# Altium schematic symbol library Supernova Power.SchLib: 96 symbols
Pins are listed as number, name and electrical type; pins without a type are passive.

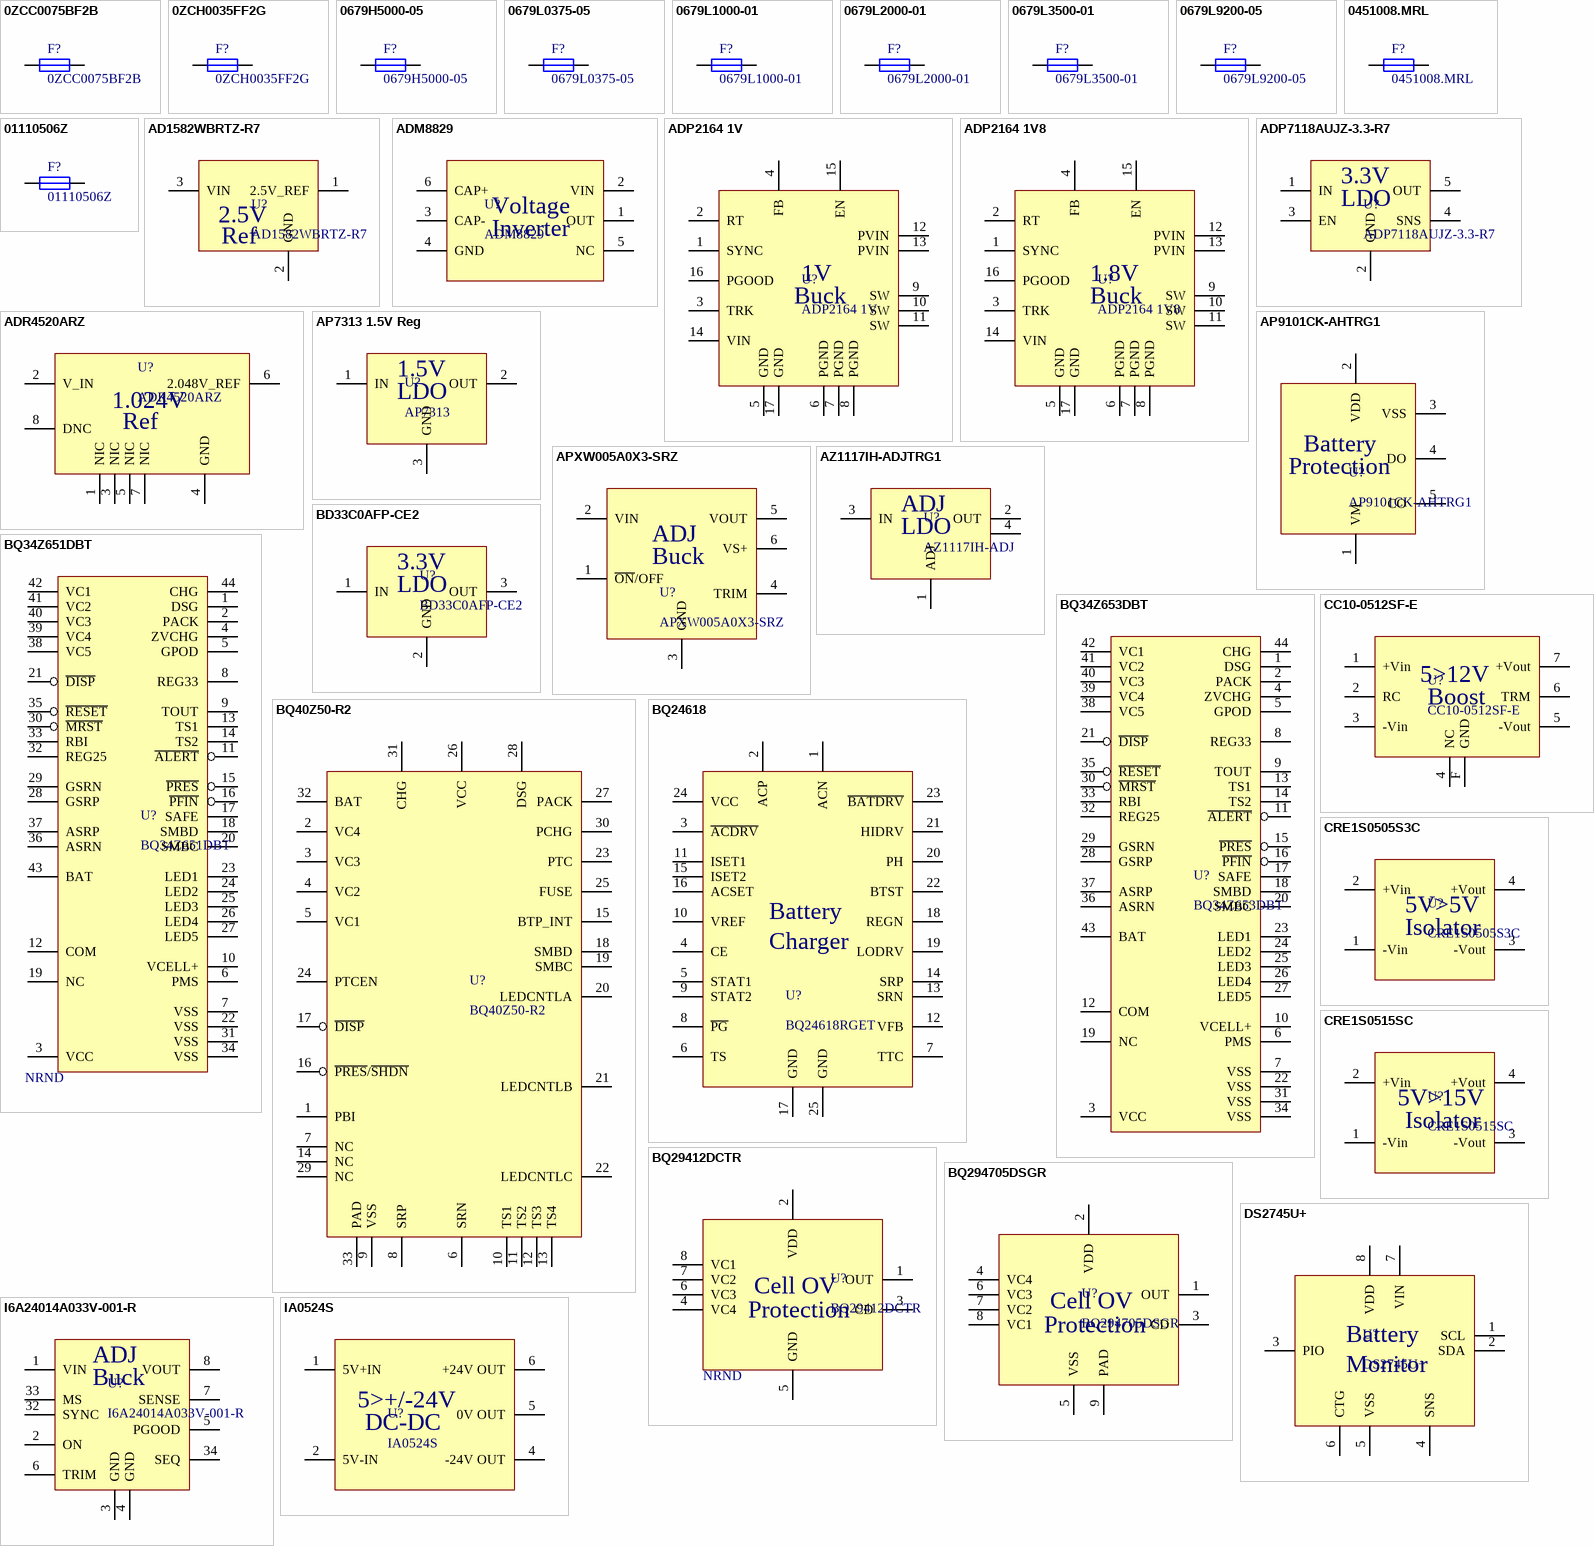
[diagram p0: symbols 0ZCC0075BF2B to IA0524S]

## 0ZCC0075BF2B
designator F?
Fuse 1A PTC Resettable; Supplier 1: Digi-Key; Supplier Part Number 1: 507-1499-1-ND; Supplier 2: Digi-Key; Supplier 3: Digi-Key; Supplier Part Number 2: 507-1765-1-ND; Supplier Part Number 3: F3355CT-ND
footprint 1812 FUSE (Chip)
pins: 1, 2

## 0ZCH0035FF2G
designator F?
Fuse 0.75A PTC Resettable; Supplier 1: Digi-Key; Supplier Part Number 1: 507-1785-1-ND; Supplier 2: Digi-Key; Supplier Part Number 2: F2997CT-ND
footprint 1210 Fuse (Footprint not found)
pins: 1, 2

## 0679H5000-05
designator F?
Fuse 5A Fast Blow; Supplier 1: Digi-Key; Supplier Part Number 1: 507-2054-1-ND; Supplier 2: Digi-Key; Supplier Part Number 2: 507-1994-1-ND
footprint 2410 FUSE (Footprint not found)
pins: 1, 2

## 0679L0375-05
designator F?
Fuse 0.375A Fast Blow; Supplier 1: Digi-Key; Supplier 2: Digi-Key; Supplier Part Number 1: 507-1982-1-ND; Supplier Part Number 2: 507-1961-1-ND
footprint 2410 FUSE (Footprint not found)
pins: 1, 2

## 0679L1000-01
designator F?
Fuse 1A Fast Blow; Supplier 1: Digi-Key; Supplier Part Number 1: 507-1965-1-ND; Supplier 2: Digi-Key; Supplier Part Number 2: 507-2046-1-ND
footprint 2410 FUSE (Footprint not found)
pins: 1, 2

## 0679L2000-01
designator F?
Fuse 2A Fast Blow; Supplier 1: Digi-Key; Supplier 2: Digi-Key; Supplier Part Number 1: 507-1968-1-ND; Supplier Part Number 2: 507-2029-1-ND
footprint 2410 FUSE (Footprint not found)
pins: 1, 2

## 0679L3500-01
designator F?
Fuse 3.5A Fast Blow; Supplier 1: Digi-Key; Supplier 2: Digi-Key; Supplier Part Number 1: 507-1971-1-ND; Supplier Part Number 2: 507-1992-1-ND
footprint 2410 FUSE (Footprint not found)
pins: 1, 2

## 0679L9200-05
designator F?
Fuse 20A Fast Blow; Mass_g: 0.3327; Supplier 1: Digi-Key; Supplier Part Number 1: 507-2001-1-ND; Supplier 2: Digi-Key; Supplier Part Number 2: 507-1980-1-ND
footprint 2410 FUSE (Footprint not found)
pins: 1, 2

## 0451008.MRL
designator F?
Fuse 8A Fast Blow; Supplier 1: Digi-Key; Supplier Part Number 1: F2590CT-ND; Supplier 2: Digi-Key; Supplier Part Number 2: 507-2057-1-ND
footprint 2410 FUSE (Footprint not found)
pins: 1, 2

## 01110506Z
designator F?
Fuse Holder 0520; Supplier 1: Digi-Key; Supplier Part Number 1: F4083-ND; Supplier 2: Digi-Key; Supplier Part Number 2: F4189-ND
footprint 0111506 (Footprint not found)
pins: 1, 2

## AD1582WBRTZ-R7
designator U?
Reference 2.5V; Mass_g: 0.091; Supplier 1: Mouser; Supplier Part Number 1: 584-AD1582WBRTZ-R7; Supplier 2: Digi-Key; Supplier Part Number 2: 505-AD1582WBRTZ-R7CT-ND
footprint SOT23-3 (Footprint not found)
pins: 1 2.5V_REF, 2 GND, 3 VIN
text: 2.5V; Ref

## ADM8829
designator U?
Regulator Voltage Inverter; Supplier 1: Digi-Key; Supplier Part Number 1: ADM8829ARTZ-REEL7CT-ND; Supplier 2: Mouser; Supplier 3: Newark; Supplier Part Number 2: 584-ADM8829ARTZ-R7; Supplier Part Number 3: 45X9647
footprint SOT23-6 (Footprint not found)
pins: 1 OUT, 2 VIN, 3 CAP-, 4 GND, 5 NC, 6 CAP+
text: Voltage; Inverter

## ADP2164 1V
designator U?
Regulator 1V 4A Switching; Supplier 1: Digi-Key; Supplier Part Number 1: ADP2164ACPZ-1.0-R7CT-ND; Supplier 2: Mouser; Supplier Part Number 2: 584-ADP2164ACPZ1.0R7
footprint QFN-16 EP 0.65mm (QFN, 16-Leads, Body 4.00x4.00mm, Pitch 0.65mm, Thermal Pad 2.50x2.50mm, IPC Medium Density)
pins: 1 SYNC, 2 RT, 3 TRK, 4 FB, 5 GND, 6 PGND, 7 PGND, 8 PGND, 9 SW, 10 SW, 11 SW, 12 PVIN, 13 PVIN, 14 VIN, 15 EN, 16 PGOOD, 17 GND
text: 1V; Buck

## ADP2164 1V8
designator U?
Regulator 1V8 4A Switching; Supplier 1: Digi-Key; Supplier Part Number 1: ADP2164ACPZ-1.8-R7CT-ND; Supplier 2: Mouser; Supplier Part Number 2: 584-ADP2164ACPZ1.8R7
footprint QFN-16 EP 0.65mm (QFN, 16-Leads, Body 4.00x4.00mm, Pitch 0.65mm, Thermal Pad 2.50x2.50mm, IPC Medium Density)
pins: 1 SYNC, 2 RT, 3 TRK, 4 FB, 5 GND, 6 PGND, 7 PGND, 8 PGND, 9 SW, 10 SW, 11 SW, 12 PVIN, 13 PVIN, 14 VIN, 15 EN, 16 PGOOD, 17 GND
text: 1.8V; Buck

## ADP7118AUJZ-3.3-R7
designator U?
Regulator 3.3V LDO; Supplier 1: Digi-Key; Supplier Part Number 1: ADP7118AUJZ-3.3-R7CT-ND; Supplier 2: Mouser; Supplier Part Number 2: 584-ADP7118AUJZ3.3R7
footprint SOT23-5 (Footprint not found)
pins: 1 IN, 2 GND, 3 EN, 4 SNS, 5 OUT
text: 3.3V; LDO

## ADR4520ARZ
designator U?
Reference 2.048V; Supplier 1: Digi-Key; Supplier 2: Mouser; Supplier Part Number 2: 584-ADR4520ARZ; Supplier Part Number 1: ADR4520ARZ-ND
footprint SOIC-8 (Footprint not found)
pins: 1 NIC, 2 V_IN, 3 NIC, 4 GND, 5 NIC, 6 2.048V_REF, 7 NIC, 8 DNC
text: 1.024V; Ref

## AP7313 1.5V Reg
designator U?, comment AP7313
Regulator 1.5V 200mA LDO; Supplier 1: Digi-Key; Supplier Part Number 1: AP7313-15SAG-7DICT-ND; Supplier 2: Digi-Key; Supplier 3: Digi-Key; Supplier Part Number 2: AP7333-15SAG-7DICT-ND; Supplier Part Number 3: 1028-1470-1-ND
footprint SOT23-3 (Footprint not found)
pins: 1 IN, 2 OUT, 3 GND
text: 1.5V; LDO

## AP9101CK-AHTRG1
designator U?
Battery Protection single cell; Supplier 1: Digi-Key; Supplier 2: Digikey; Supplier Part Number 1: AP9101CK-AHTRG1DICT-ND; Supplier Part Number 2: AP9101CAK-AKTRG1DICT-ND
footprint SOT23-5 (Footprint not found)
pins: 1 VM (power), 2 VDD (power), 3 VSS, 4 DO, 5 CO
text: Battery; Protection

## APXW005A0X3-SRZ
designator U?
Regulator DC-DC Buck Converter 5A 45W Adjustable; Supplier 1: Digi-Key; Supplier Part Number 1: 555-1172-1-ND; Supplier 2: Mouser; Supplier 3: Digi-Key; Supplier Part Number 2: 894-APXW005A0X3-SRZ; Supplier Part Number 3: 555-1436-1-ND
footprint APXW005 (Footprint not found)
pins: 1 ~{ON}/OFF, 2 VIN, 3 GND, 4 TRIM, 5 VOUT, 6 VS+
text: ADJ; Buck

## AZ1117IH-ADJTRG1
designator U?, comment AZ1117IH-ADJ
Regulator Adjustable LDO 800mA; Supplier 1: Digi-Key; Supplier Part Number 1: AZ1117IH-ADJTRG1DICT-ND; Supplier 2: Digi-Key; Supplier 3: Digi-Key; Supplier 4: Digi-Key; Supplier Part Number 2: LM317AEMPX/NOPBCT-ND; Supplier Part Number 3: LM317AEMP/NOPBCT-ND; Supplier Part Number 4: 296-17600-1-ND
footprint SOT233 (Footprint not found)
pins: 1 ADJ, 2 OUT, 3 IN, 4 OUT
text: LDO

## BD33C0AFP-CE2
designator U?
Regulator 3.3V LDO High Current; Supplier 1: Digi-Key; Supplier Part Number 1: BD33C0AFP-CE2CT-ND
footprint DPAK (Footprint not found)
pins: 1 IN, 2 GND, 3 OUT
text: 3.3V; LDO

## BQ34Z651DBT
designator U?
Battery Gas Gauge BQ34Z651DBT; Supplier 1: Digi-Key; Supplier 2: Mouser; Supplier Part Number 1: 296-29263-5-ND; Supplier Part Number 2: 595-BQ34Z651DBTR; NRND: NRND
footprint TSSOP-44 0.5mm (TSSOP, 44-Leads, Body 11.15x4.40mm, Pitch 0.50mm, IPC Medium Density)
pins: 1 DSG "High side N-chan discharge FET gate drive", 2 PACK "Battery pack input voltage sense input. It also serves as device wake up when device is in shutdown mode.", 3 VCC "Positive device supply input. Connect to the center connection of the CHG FET and DSG FET to ensure device supply either from battery stack or battery pack input", 4 ZVCHG "P-chan pre-charge FET gate drive", 5 GPOD "High voltage general purpose open drain output. Can be configured to be used in pre-charge condition", 6 PMS "Pre-charge mode setting input. Connect to PACK to enable 0v pre-charge using charge FET connected at CHG pin. Connect to VSS to disable 0-V pre-charge using charge FET connected at CHG pin.", 7 VSS "Negative supply voltage input. Connect all VSS pins together for operation of device", 8 REG33 "3.3-V regulator output. Connect at least a 2.2-uF capacitor to REG33 and VSS", 9 TOUT "Thermistor bias supply output", 10 VCELL+ "Internal cell voltage multiplexer and amplifier output. Connect a 0.1-uF capacitor to VCELL+ and VSS", 11 ~{ALERT} "Alert output. In case of short circuit condition, overload condition and watchdog time out this pin will be triggered", 12 COM "Not used--leave floating.", 13 TS1 "1st Thermistor voltage input connection to monitor temperature", 14 TS2 "2nd Thermistor voltage input connection to monitor temperature", 15 ~{PRES} "Active low input to sense system insertion. Typically requires additional ESD protection.", 16 ~{PFIN} "Active low input to detect secondary protector status, and to allow the bq20z655-R1 to report the status of the 2nd level protection input.", 17 SAFE "Active high output to enforce additional level of safety protection; e.g., fuse blow.", 18 SMBD "SMBus data open-drain bidirectional pin used to transfer address and data to and from the bq20z655-R1", 19 NC "Not used--leave floating.", 20 SMBC "SMBus clock open-drain bidirectional pin used to clock the data transfer to and from the bq20z655-R1", 21 ~{DISP} "Input: In LED mode, this is the display enable input.", 22 VSS "Negative supply voltage input. Connect all VSS pins together for operation of device", 23 LED1 "LED1 display segment that drives an external LED depending on the firmware configuration", 24 LED2 "LED2 display segment that drives an external LED depending on the firmware configuration", 25 LED3 "LED3 display segment that drives an external LED depending on the firmware configuration", 26 LED4 "LED4 display segment that drives an external LED depending on the firmware configuration", 27 LED5 "LED5 display segment that drives an external LED depending on the firmware configuration", 28 GSRP "Coulomb counter differential input. Connect to one side of the sense resistor", 29 GSRN "Coulomb counter differential input. Connect to one side of the sense resistor", 30 ~{MRST} "Master reset input that forces the device into reset when held low. Must be held high for normal operation. Connect to R\E\S\E\T\ for correct operation of device", 31 VSS "Negative supply voltage input. Connect all VSS pins together for operation of device", 32 REG25 "2.5V regulator output. Connect at least a 1-mF capacitor to REG25 and VSS", 33 RBI "RAM / Register backup input. Connect a capacitor to this pin and VSS to protect loss of RAM/Register data in case of short circuit condition.", 34 VSS "Negative supply voltage input. Connect all VSS pins together for operation of device", 35 ~{RESET} "Reset output. Connect to M\S\R\T\.", 36 ASRN "Short circuit and overload detection differential input. Connect to sense resistor", 37 ASRP "Short circuit and overload detection differential input. Connect to sense resistor", 38 VC5 "Cell voltage sense input and cell balancing input for the negative voltage of the bottom cell in cell stack.", 39 VC4 "Cell voltage sense input and cell balancing input for the positive voltage of the bottom cell and the negative voltage of the second lowest cell in cell stack.", 40 VC3 "Cell voltage sense input and cell balancing input for the positive voltage of the second lowest cell in cell stack and the negative voltage of the second highest cell in 4 cell applications.", 41 VC2 "Cell voltage sense input and cell balancing input for the positive voltage of the second highest cell and the negative voltage of the highest cell in 4 cell applications. Connect to VC3 in 2 cell stack applications.", 42 VC1 "Cell voltage sense input and cell balancing input for the positive voltage of the highest cell in cell stack in 4 cell applications. Connect to VC2 in 2- or 3-stack applications.", 43 BAT "Battery stack voltage sense input.", 44 CHG "High side N-channel charge FET gate drive"

## BQ34Z653DBT
designator U?
Battery Gas Gauge BQ34Z653DBT; Supplier 1: Mouser; Supplier Part Number 1: 595-BQ34Z653DBT; Supplier 2: Digi-Key; Supplier Part Number 2: BQ34Z653DBT-ND
footprint TSSOP-44 0.5mm (TSSOP, 44-Leads, Body 11.15x4.40mm, Pitch 0.50mm, IPC Medium Density)
pins: 1 DSG "High side N-chan discharge FET gate drive", 2 PACK "Battery pack input voltage sense input. It also serves as device wake up when device is in shutdown mode.", 3 VCC "Positive device supply input. Connect to the center connection of the CHG FET and DSG FET to ensure device supply either from battery stack or battery pack input", 4 ZVCHG "P-chan pre-charge FET gate drive", 5 GPOD "High voltage general purpose open drain output. Can be configured to be used in pre-charge condition", 6 PMS "Pre-charge mode setting input. Connect to PACK to enable 0v pre-charge using charge FET connected at CHG pin. Connect to VSS to disable 0-V pre-charge using charge FET connected at CHG pin.", 7 VSS "Negative supply voltage input. Connect all VSS pins together for operation of device", 8 REG33 "3.3-V regulator output. Connect at least a 2.2-uF capacitor to REG33 and VSS", 9 TOUT "Thermistor bias supply output", 10 VCELL+ "Internal cell voltage multiplexer and amplifier output. Connect a 0.1-uF capacitor to VCELL+ and VSS", 11 ~{ALERT} "Alert output. In case of short circuit condition, overload condition and watchdog time out this pin will be triggered", 12 COM "Not used--leave floating.", 13 TS1 "1st Thermistor voltage input connection to monitor temperature", 14 TS2 "2nd Thermistor voltage input connection to monitor temperature", 15 ~{PRES} "Active low input to sense system insertion. Typically requires additional ESD protection.", 16 ~{PFIN} "Active low input to detect secondary protector status, and to allow the bq20z655-R1 to report the status of the 2nd level protection input.", 17 SAFE "Active high output to enforce additional level of safety protection; e.g., fuse blow.", 18 SMBD "SMBus data open-drain bidirectional pin used to transfer address and data to and from the bq20z655-R1", 19 NC "Not used--leave floating.", 20 SMBC "SMBus clock open-drain bidirectional pin used to clock the data transfer to and from the bq20z655-R1", 21 ~{DISP} "Input: In LED mode, this is the display enable input.", 22 VSS "Negative supply voltage input. Connect all VSS pins together for operation of device", 23 LED1 "LED1 display segment that drives an external LED depending on the firmware configuration", 24 LED2 "LED2 display segment that drives an external LED depending on the firmware configuration", 25 LED3 "LED3 display segment that drives an external LED depending on the firmware configuration", 26 LED4 "LED4 display segment that drives an external LED depending on the firmware configuration", 27 LED5 "LED5 display segment that drives an external LED depending on the firmware configuration", 28 GSRP "Coulomb counter differential input. Connect to one side of the sense resistor", 29 GSRN "Coulomb counter differential input. Connect to one side of the sense resistor", 30 ~{MRST} "Master reset input that forces the device into reset when held low. Must be held high for normal operation. Connect to R\E\S\E\T\ for correct operation of device", 31 VSS "Negative supply voltage input. Connect all VSS pins together for operation of device", 32 REG25 "2.5V regulator output. Connect at least a 1-mF capacitor to REG25 and VSS", 33 RBI "RAM / Register backup input. Connect a capacitor to this pin and VSS to protect loss of RAM/Register data in case of short circuit condition.", 34 VSS "Negative supply voltage input. Connect all VSS pins together for operation of device", 35 ~{RESET} "Reset output. Connect to M\S\R\T\.", 36 ASRN "Short circuit and overload detection differential input. Connect to sense resistor", 37 ASRP "Short circuit and overload detection differential input. Connect to sense resistor", 38 VC5 "Cell voltage sense input and cell balancing input for the negative voltage of the bottom cell in cell stack.", 39 VC4 "Cell voltage sense input and cell balancing input for the positive voltage of the bottom cell and the negative voltage of the second lowest cell in cell stack.", 40 VC3 "Cell voltage sense input and cell balancing input for the positive voltage of the second lowest cell in cell stack and the negative voltage of the second highest cell in 4 cell applications.", 41 VC2 "Cell voltage sense input and cell balancing input for the positive voltage of the second highest cell and the negative voltage of the highest cell in 4 cell applications. Connect to VC3 in 2 cell stack applications.", 42 VC1 "Cell voltage sense input and cell balancing input for the positive voltage of the highest cell in cell stack in 4 cell applications. Connect to VC2 in 2- or 3-stack applications.", 43 BAT "Battery stack voltage sense input.", 44 CHG "High side N-channel charge FET gate drive"

## BQ40Z50-R2
designator U?
Battery Gas Gauge BQ40Z50-R2; Supplier 1: Digi-Key; Supplier 2: Digi-Key; Supplier 3: Digi-Key; Supplier Part Number 1: 296-47744-1-ND; Supplier Part Number 2: 296-42424-1-ND; Supplier Part Number 3: 296-46077-1-ND
footprint QFN-32 EP 0.4mm (QFN, 32-Leads, Body 4.00x4.00mm, Pitch 0.40mm, Thermal Pad 1.40x1.40mm, IPC Medium Density)
pins: 1 PBI "Cell voltage sense input and cell balancing input for the positive voltage of the highest cell in cell stack in 4 cell applications. Connect to VC2 in 2- or 3-stack applications.", 2 VC4 "Cell voltage sense input and cell balancing input for the positive voltage of the bottom cell and the negative voltage of the second lowest cell in cell stack.", 3 VC3 "Cell voltage sense input and cell balancing input for the positive voltage of the second lowest cell in cell stack and the negative voltage of the second highest cell in 4 cell applications.", 4 VC2 "Cell voltage sense input and cell balancing input for the positive voltage of the second highest cell and the negative voltage of the highest cell in 4 cell applications. Connect to VC3 in 2 cell stack applications.", 5 VC1 "Cell voltage sense input and cell balancing input for the positive voltage of the highest cell in cell stack in 4 cell applications. Connect to VC2 in 2- or 3-stack applications.", 6 SRN "Short circuit and overload detection differential input. Connect to sense resistor", 7 NC "Not used--leave floating.", 8 SRP "Short circuit and overload detection differential input. Connect to sense resistor", 9 VSS "Negative supply voltage input. Connect all VSS pins together for operation of device", 10 TS1 "1st Thermistor voltage input connection to monitor temperature", 11 TS2 "2nd Thermistor voltage input connection to monitor temperature", 12 TS3 "2nd Thermistor voltage input connection to monitor temperature", 13 TS4 "2nd Thermistor voltage input connection to monitor temperature", 14 NC "Not used--leave floating.", 15 BTP_INT "Cell voltage sense input and cell balancing input for the positive voltage of the highest cell in cell stack in 4 cell applications. Connect to VC2 in 2- or 3-stack applications.", 16 ~{PRES}/~{SHDN} "Active low input to sense system insertion. Typically requires additional ESD protection.", 17 ~{DISP} "Input: In LED mode, this is the display enable input.", 18 SMBD "SMBus data open-drain bidirectional pin used to transfer address and data to and from the bq20z655-R1", 19 SMBC "SMBus clock open-drain bidirectional pin used to clock the data transfer to and from the bq20z655-R1", 20 LEDCNTLA "LED1 display segment that drives an external LED depending on the firmware configuration", 21 LEDCNTLB "LED1 display segment that drives an external LED depending on the firmware configuration", 22 LEDCNTLC "LED1 display segment that drives an external LED depending on the firmware configuration", 23 PTC "LED1 display segment that drives an external LED depending on the firmware configuration", 24 PTCEN "LED1 display segment that drives an external LED depending on the firmware configuration", 25 FUSE "Active high output to enforce additional level of safety protection; e.g., fuse blow.", 26 VCC "Positive device supply input. Connect to the center connection of the CHG FET and DSG FET to ensure device supply either from battery stack or battery pack input", 27 PACK "Battery pack input voltage sense input. It also serves as device wake up when device is in shutdown mode.", 28 DSG "High side N-chan discharge FET gate drive", 29 NC "Not used--leave floating.", 30 PCHG "P-chan pre-charge FET gate drive", 31 CHG "High side N-channel charge FET gate drive", 32 BAT "2.5V regulator output. Connect at least a 1-mF capacitor to REG25 and VSS", 33 PAD "Not used--leave floating."

## BQ24618
designator U?, comment BQ24618RGET
Battery Charger; Supplier 1: Digi-Key; Supplier Part Number 1: 296-28018-1-ND; Supplier 2: Newark; Supplier 3: Mouser; Supplier Part Number 2: 59Y6811; Supplier Part Number 3: 595-BQ24618RGET
footprint QFN-24 0.5mm (QFN, 24-Leads, Body 4.00x4.00mm, Pitch 0.50mm, Thermal Pad 2.45x2.45mm, IPC Medium Density)
pins: 1 ACN, 2 ACP, 3 ~{ACDRV}, 4 CE, 5 STAT1, 6 TS, 7 TTC, 8 ~{PG}, 9 STAT2, 10 VREF, 11 ISET1, 12 VFB, 13 SRN, 14 SRP, 15 ISET2, 16 ACSET, 17 GND, 18 REGN, 19 LODRV, 20 PH, 21 HIDRV, 22 BTST, 23 ~{BATDRV}, 24 VCC, 25 GND
text: Battery; Charger

## BQ29412DCTR
designator U?
Battery Monitoring; Supplier 1: Digi-Key; Supplier Part Number 1: 296-21723-1-ND; Supplier 2: Mouser; Supplier 3: Mouser; Supplier 4: Digi-Key; Supplier Part Number 2: 595-BQ29412DCTR; Supplier Part Number 3: 595-BQ29412DCTT; Supplier Part Number 4: 296-32040-1-ND; NRND: NRND
footprint SM8 0.65mm (TSOP, 8-Leads, Body 2.95x2.80mm, Pitch 0.65mm, IPC Medium Density)
pins: 1 OUT, 2 VDD, 3 CD, 4 VC4, 5 GND, 6 VC3, 7 VC2, 8 VC1
text: Cell OV; Protection

## BQ294705DSGR
designator U?
Battery Monitoring; Supplier 1: Digi-Key; Supplier 2: Mouser; Supplier Part Number 1: 296-BQ294705DSGRCT-ND; Supplier Part Number 2: 595-BQ294705DSGR
footprint SON-8 0.5mm (SON, 8-Leads, Body 2.00x2.00mm, Pitch 0.50mm, Thermal Pad 1.60x0.69mm, IPC Medium Density)
pins: 1 OUT, 2 VDD, 3 CD, 4 VC4, 5 VSS, 6 VC3, 7 VC2, 8 VC1, 9 PAD
text: Cell OV; Protection

## CC10-0512SF-E
designator U?
Regulator DC-DC Boost Converter 5V->12V 10W; Supplier 1: Digi-Key; Supplier Part Number 1: 445-2433-ND; Supplier 2: Mouser; Supplier Part Number 2: 967-CC10-0512SF-E
footprint CC10 (Footprint not found)
pins: 1 +Vin, 2 RC, 3 -Vin, 4 NC, 5 -Vout, 6 TRM, 7 +Vout, F GND
text: 5>12V; Boost

## CRE1S0505S3C
designator U?
Regulator DC-DC Converter 5V->5V Isolated; Supplier 1: Digi-Key; Supplier Part Number 1: 811-3195-ND; Supplier 2: Digi-Key; Supplier 3: Digi-Key; Supplier Part Number 2: 945-1655-5-ND; Supplier Part Number 3: 102-2758-ND
footprint CRE1S0505S3C (Footprint not found)
pins: 1 -Vin, 2 +Vin, 3 -Vout, 4 +Vout
text: 5V>5V; Isolator

## CRE1S0515SC
designator U?
Regulator DC-DC Boost Converter 5V->15V 1W; Supplier 1: Digi-Key; Supplier 2: Digi-Key; Supplier Part Number 1: 811-3197-ND; Supplier Part Number 2: 102-3948-ND
footprint CRE1S0505S3C (Footprint not found)
pins: 1 -Vin, 2 +Vin, 3 -Vout, 4 +Vout
text: 5V>15V; Isolator

## DS2745U+
designator U?
Battery Monitor; Supplier 1: Digi-Key; Supplier 2: Digi-Key; Supplier Part Number 1: DS2745U+-ND; Supplier Part Number 2: DS2745U+CT-ND
footprint TSOP-8 0.65mm (TSOP, 8-Leads, Body 3.00x3.00mm, Pitch 0.65mm, IPC Medium Density)
pins: 1 SCL, 2 SDA, 3 PIO, 4 SNS, 5 VSS, 6 CTG, 7 VIN, 8 VDD
text: Battery; Monitor

## I6A24014A033V-001-R
designator U?
Regulator DC-DC Converter Buck 14A Adjustable; Supplier 1: Digi-Key; Supplier Part Number 1: 285-2434-ND; Supplier 2: Newark; Supplier 3: Mouser; Supplier Part Number 2: 78Y5855; Supplier Part Number 3: 967-I6A24014A033V001
footprint i6a-11pins (Footprint not found)
pins: 1 VIN, 2 ON, 3 GND, 4 GND, 5 PGOOD, 6 TRIM, 7 SENSE, 8 VOUT, 32 SYNC, 33 MS, 34 SEQ
text: ADJ; Buck

## IA0524S
designator U?
Regulator DC-DC Boost Converter 5V->+/-24V 1W; Supplier 1: Digi-Key; Supplier 2: Digi-Key; Supplier Part Number 1: 1470-1353-5-ND; Supplier Part Number 2: 102-2994-5-ND
footprint PDM1-S (Footprint not found)
pins: 1 5V+IN, 2 5V-IN, 4 -24V OUT, 5 0V OUT, 6 +24V OUT
text: 5>+/-24V; DC-DC

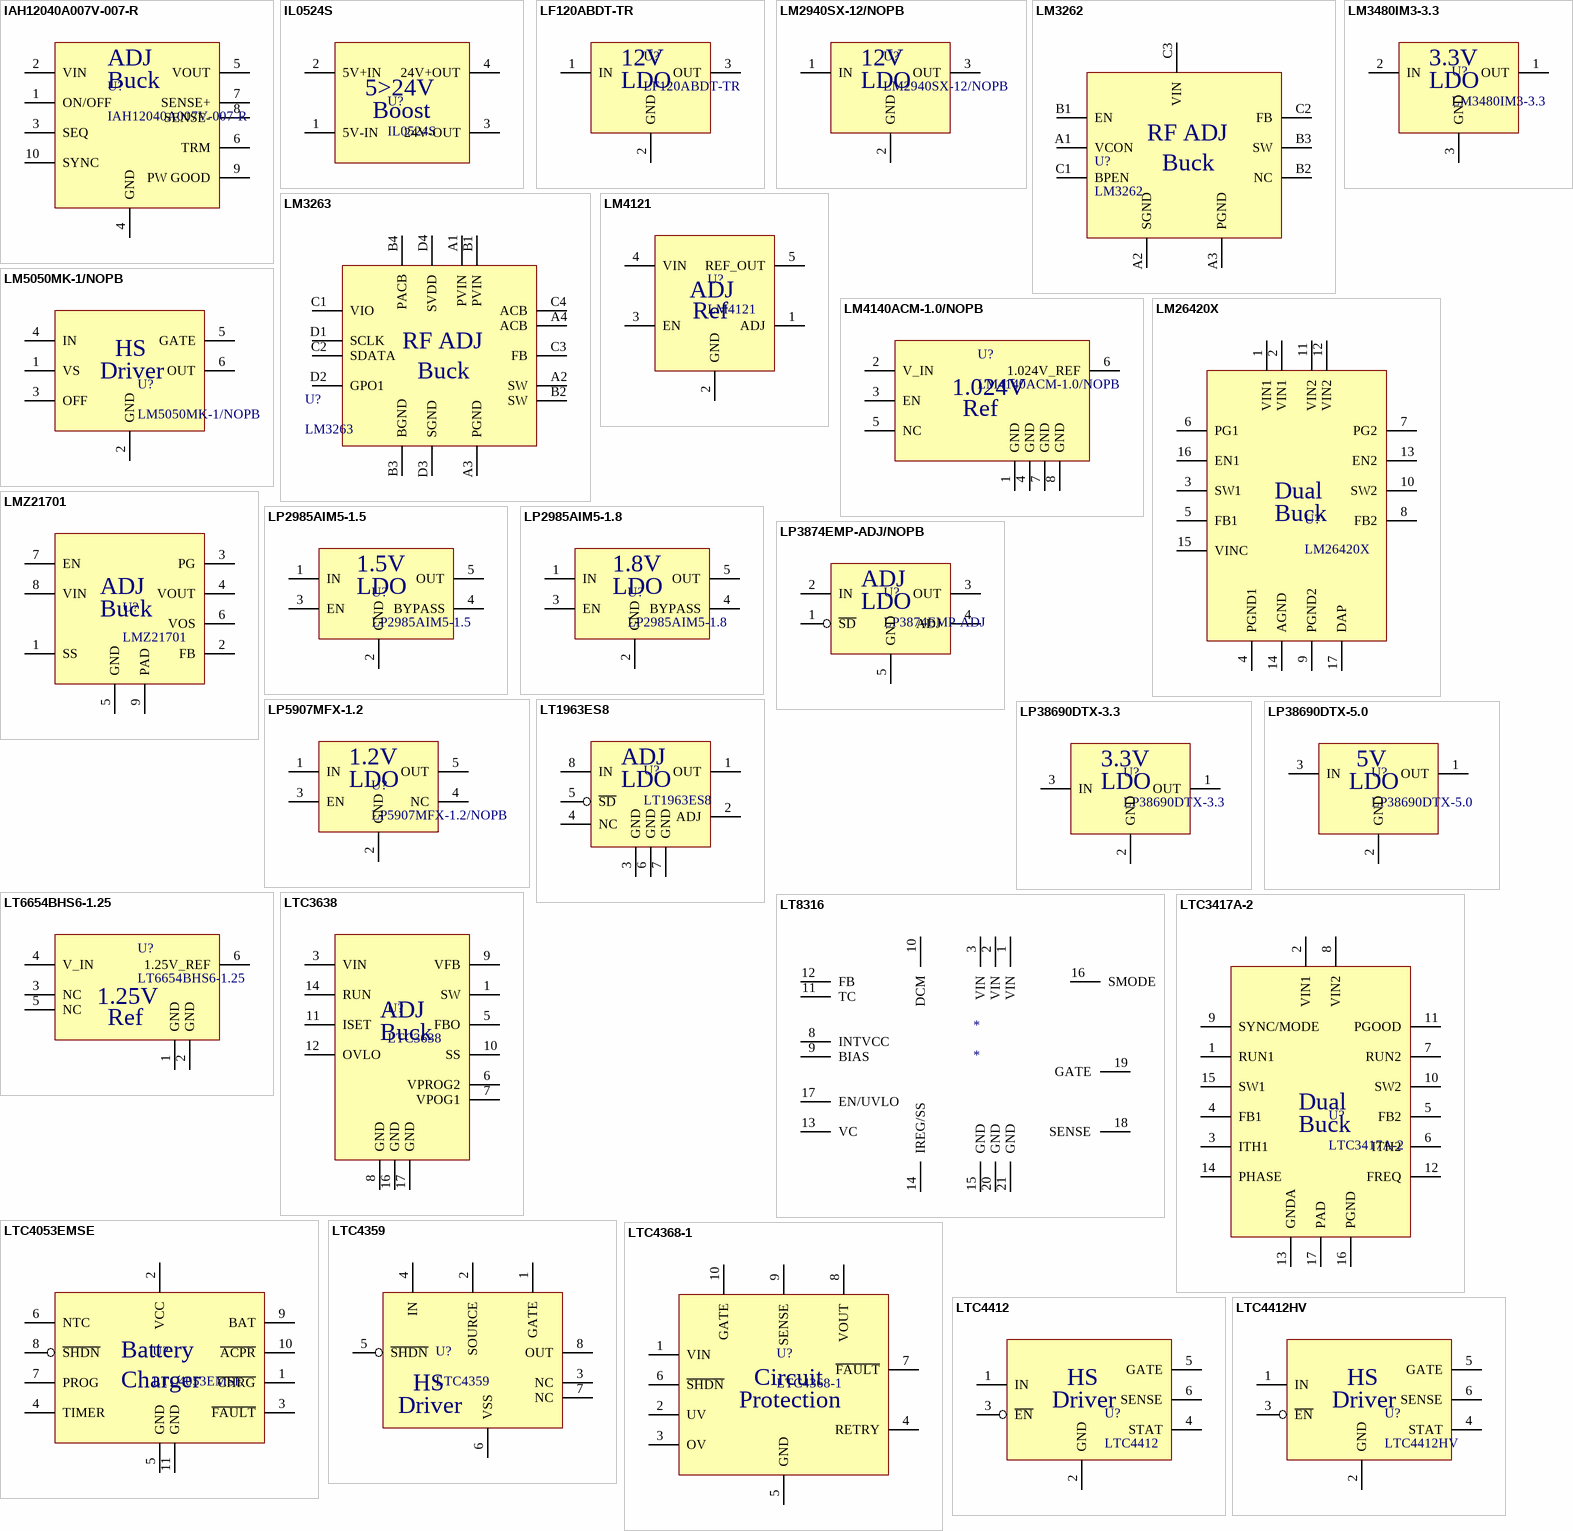
[diagram p1: symbols IAH12040A007V-007-R to LTC4412HV]

## IAH12040A007V-007-R
designator U?
Regulator DC-DC Buck Converter 40A Adjustable; Supplier 1: Digi-Key; Supplier Part Number 1: 285-2474-1-ND; Supplier 2: Newark; Supplier 3: Mouser; Supplier Part Number 2: 70Y5447; Supplier Part Number 3: 967-IAH12040A007V007
footprint IAH (Footprint not found)
pins: 1 ON/OFF, 2 VIN, 3 SEQ, 4 GND, 5 VOUT, 6 TRM, 7 SENSE+, 8 SENSE-, 9 PW GOOD, 10 SYNC
text: ADJ; Buck

## IL0524S
designator U?
Regulator DC-DC Boost Converter 5V->24V 2W; Supplier 1: Digi-Key; Supplier Part Number 1: 1470-1480-5-ND; Supplier 2: Newark; Supplier Part Number 2: 93T1525
footprint IL0524S (Footprint not found)
pins: 1 5V-IN, 2 5V+IN, 3 24V-OUT, 4 24V+OUT
text: 5>24V; Boost

## LF120ABDT-TR
designator U?
Regulator 12V LDO 500mA; Supplier 1: Digi-Key; Supplier Part Number 1: 497-8330-1-ND; Supplier 2: Digi-Key; Supplier Part Number 2: 296-27429-1-ND
footprint DPAK (Footprint not found)
pins: 1 IN, 2 GND, 3 OUT
text: 12V; LDO

## LM2940SX-12/NOPB
designator U?
Regulator 12V LDO 1A; Supplier 1: Digi-Key; Supplier Part Number 1: LM2940SX-12/NOPBCT-ND; Supplier 2: Digi-Key; Supplier Part Number 2: LM2940SX-12/NOPBDKR-ND
footprint D2PAK-3 (Footprint not found)
pins: 1 IN, 2 GND, 3 OUT
text: 12V; LDO

## LM3262
designator U?
Regulator Adjustable Switching RF Supply; Supplier 1: Digi-Key; Supplier 2: Mouser; Supplier Part Number 1: 296-40182-1-ND; Supplier Part Number 2: 595-LM3262TMX/NOPB
footprint BGA-9 0.4mm (BGA, 9-Leads, Body 1.36x1.48mmx0.68mm, Pitch 0.40mm)
pins: A1 VCON, A2 SGND, A3 PGND, B1 EN, B2 NC, B3 SW, C1 BPEN, C2 FB, C3 VIN
text: RF ADJ; Buck

## LM3263
designator U?
Regulator Adjustable Switching RF supply; Supplier 1: Mouser; Supplier 2: Digi-Key; Supplier Part Number 1: 595-LM3263TME/NOPB; Supplier Part Number 2: 296-40183-1-ND
footprint BGA-16 0.4mm (BGA, 16-Leads, Body 2.02x2.02mmx0.60mm, Pitch 0.40mm)
pins: A1 PVIN, A2 SW, A3 PGND, A4 ACB, B1 PVIN, B2 SW, B3 BGND, B4 PACB, C1 VIO, C2 SDATA, C3 FB, C4 ACB, D1 SCLK, D2 GPO1, D3 SGND, D4 SVDD
text: RF ADJ; Buck

## LM3480IM3-3.3
designator U?
Regulator 3.3V LDO 3 pin High Voltage; Supplier 1: Digi-Key; Supplier 2: Digi-Key; Supplier Part Number 1: LM3480IM3-3.3/NOPBCT-ND; Supplier Part Number 2: 296-47016-1-ND
footprint SOT23-3 (Footprint not found)
pins: 1 OUT, 2 IN, 3 GND
text: 3.3V; LDO

## LM4121
designator U?
Reference Adjustable; Supplier 1: Digi-Key; Supplier 2: Mouser; Supplier Part Number 1: LM4121AIM5-ADJ/NOPBCT-ND; Supplier Part Number 2: 926-LM4121AIM5ADJNPB
footprint SOT23-5 (Footprint not found)
pins: 1 ADJ, 2 GND, 3 EN, 4 VIN, 5 REF_OUT
text: Ref

## LM4140ACM-1.0/NOPB
designator U?
Reference 1.024V; Supplier 1: Digi-Key; Supplier 2: Mouser; Supplier Part Number 1: LM4140ACM-1.0/NOPB-ND; Supplier Part Number 2: 926-LM4140ACM10NOPB
footprint SOIC-8 (Footprint not found)
pins: 1 GND, 2 V_IN, 3 EN, 4 GND, 5 NC, 6 1.024V_REF, 7 GND, 8 GND
text: 1.024V; Ref

## LM5050MK-1/NOPB
designator U?
Driver High side NMOS; Supplier 1: Digi-Key; Supplier Part Number 1: LM5050MK-1/NOPBCT-ND; Supplier 2: Mouser; Supplier 3: Mouser; Supplier 4: Digi-Key; Supplier 5: Digi-Key; Supplier Part Number 2: 926-LM5050MK-2/NOPB; Supplier Part Number 3: 926-LM5050MKX-1/NOPB; Supplier Part Number 4: 296-48581-1-ND; Supplier Part Number 5: 296-46427-1-ND
footprint SOT23-6 (Footprint not found)
pins: 1 VS, 2 GND, 3 OFF, 4 IN, 5 GATE, 6 OUT
text: HS; Driver

## LM26420X
designator U?
Regulator 2 channel 2A switching; Supplier 1: Digi-Key; Supplier Part Number 1: LM26420XSQ/NOPBCT-ND; Supplier 2: Digi-Key; Supplier 3: Digi-Key; Supplier 4: Digi-Key; Supplier Part Number 2: 296-39605-1-ND; Supplier Part Number 3: 296-42342-1-ND; Supplier Part Number 4: 296-38098-6-ND
footprint SON-16 0.5mm (SON, 16-Leads, Body 5.00x3.50mm, Pitch 0.50mm, Thermal Pad 4.45x1.65mm, IPC Medium Density)
pins: 1 VIN1, 2 VIN1, 3 SW1, 4 PGND1, 5 FB1, 6 PG1, 7 PG2, 8 FB2, 9 PGND2, 10 SW2, 11 VIN2, 12 VIN2, 13 EN2, 14 AGND, 15 VINC, 16 EN1, 17 DAP
text: Dual; Buck

## LMZ21701
designator U?
Regulator DC-DC Buck Converter 1A; Supplier 1: Digi-Key; Supplier Part Number 1: 296-38545-1-ND; Supplier 2: Digi-Key; Supplier Part Number 2: 296-43645-1-ND
footprint LMZ21701 (Footprint not found)
pins: 1 SS, 2 FB, 3 PG, 4 VOUT, 5 GND, 6 VOS, 7 EN, 8 VIN, 9 PAD
text: ADJ; Buck

## LP2985AIM5-1.5
designator U?
Regulator 1.5V 150mA LDO; Supplier 1: Digi-Key; Supplier Part Number 1: LP2985AIM5-1.5/NOPBCT-ND
footprint SOT23-5 (Footprint not found)
pins: 1 IN (power), 2 GND (power), 3 EN, 4 BYPASS, 5 OUT
text: 1.5V; LDO

## LP2985AIM5-1.8
designator U?
Regulator 1.8V 150mA LDO; Supplier 1: Digi-Key; Supplier Part Number 1: LP2985AIM5-1.8/NOPBCT-ND; Supplier 2: Digi-Key; Supplier 3: Digi-Key; Supplier Part Number 2: 296-18474-1-ND; Supplier Part Number 3: 296-32155-1-ND
footprint SOT23-5 (Footprint not found)
pins: 1 IN (power), 2 GND (power), 3 EN, 4 BYPASS, 5 OUT
text: 1.8V; LDO

## LP3874EMP-ADJ/NOPB
designator U?, comment LP3874EMP-ADJ
Regulator Adjustable LDO 800mA with Enable; Supplier 1: Digi-Key; Supplier Part Number 1: LP3874EMP-ADJ/NOPBCT-ND; Supplier 2: Digi-Key; Supplier Part Number 2: LP3874EMPX-ADJ/NOPBCT-ND
footprint SOT233-5 (Footprint not found)
pins: 1 ~{SD}, 2 IN, 3 OUT, 4 ADJ, 5 GND
text: LDO

## LP5907MFX-1.2
designator U?, comment LP5907MFX-1.2/NOPB
Regulator 1v2 250mA LDO; Supplier 1: Digi-Key; Supplier Part Number 1: 296-39062-1-ND; Supplier 2: Digi-Key; Supplier Part Number 2: MCP1824T-1202E/OTCT-ND
footprint SOT23-5 (Footprint not found)
pins: 1 IN, 2 GND, 3 EN, 4 NC, 5 OUT
text: 1.2V; LDO

## LP38690DTX-3.3
designator U?
Regulator 3.3V LDO High Current; Supplier 1: Digi-Key; Supplier Part Number 1: LP38690DTX-3.3/NOPBCT-ND; Supplier 2: Mouser; Supplier Part Number 2: 926-LP38690DTX33NOPB
footprint DPAK (Footprint not found)
pins: 1 OUT, 2 GND, 3 IN
text: 3.3V; LDO

## LP38690DTX-5.0
designator U?
Regulator 5.0V LDO High Current; Supplier 1: Digi-Key; Supplier 2: Mouser; Supplier Part Number 1: LP38690DTX-5.0/NOPBCT-ND; Supplier Part Number 2: 926-LP38690DTX50NOPB
footprint DPAK (Footprint not found)
pins: 1 OUT, 2 GND, 3 IN
text: 5V; LDO

## LT1963ES8
designator U?
Regulator Adjustable LDO 1.2A with Enable; Supplier 1: Digi-Key; Supplier Part Number 1: LT1963ES8#PBF-ND; Supplier 2: Digi-Key; Supplier Part Number 2: LT1963ES8#TRPBFCT-ND
footprint SOIC-8 (SOIC, 8-Leads, Body 4.90x3.90mm, Pitch 1.27mm, IPC Medium Density)
pins: 1 OUT, 2 ADJ, 3 GND, 4 NC, 5 ~{SD}, 6 GND, 7 GND, 8 IN
text: LDO

## LT6654BHS6-1.25
designator U?
Reference 1.25V; Supplier 1: Digi-Key; Supplier Part Number 1: LT6654BHS6-1.25#TRMPBFCT-ND; Supplier 2: Digi-Key; Supplier 3: Digi-Key; Supplier Part Number 2: LT6654AHS6-1.25#TRMPBFCT-ND; Supplier Part Number 3: LT6654AIS6-1.25#TRMPBFCT-ND
footprint SOT23-6 (Footprint not found)
pins: 1 GND, 2 GND, 3 NC, 4 V_IN, 5 NC, 6 1.25V_REF
text: 1.25V; Ref

## LT8316
designator *
pins: 1 VIN, 2 VIN, 3 VIN, 8 INTVCC, 9 BIAS, 10 DCM, 11 TC, 12 FB, 13 VC, 14 IREG/SS, 15 GND, 16 SMODE, 17 EN/UVLO, 18 SENSE, 19 GATE, 20 GND, 21 GND

## LTC3417A-2
designator U?
Regulator 2 channel 1A/1.5A switching; Supplier 1: Digi-Key; Supplier Part Number 1: LTC3417AIDHC-2#PBF-ND; Supplier 2: Digi-Key; Supplier Part Number 2: LTC3417AEDHC-2#TRPBFCT-ND; Supplier 3: Digi-Key; Supplier Part Number 3: LTC3417AEDHC-2#PBF-ND
footprint SON-16 0.5mm (SON, 16-Leads, Body 5.00x3.50mm, Pitch 0.50mm, Thermal Pad 4.45x1.65mm, IPC Medium Density)
pins: 1 RUN1, 2 VIN1, 3 ITH1, 4 FB1, 5 FB2, 6 ITH2, 7 RUN2, 8 VIN2, 9 SYNC/MODE, 10 SW2, 11 PGOOD, 12 FREQ, 13 GNDA, 14 PHASE, 15 SW1, 16 PGND, 17 PAD
text: Dual; Buck

## LTC3638
designator U?
Regulator Adjustable Switching; Supplier 1: Digi-Key; Supplier Part Number 1: LTC3638IMSE#PBF-ND; Supplier 2: Digi-Key; Supplier 3: Digi-Key; Supplier 4: Digi-Key; Supplier 5: Digi-Key; Supplier Part Number 2: LTC3638EMSE#PBF-ND; Supplier Part Number 3: LTC3638MPMSE#PBF-ND; Supplier Part Number 4: LTC3638HMSE#PBF-ND; Supplier Part Number 5: LTC3638EMSE#TRPBFCT-ND
footprint MSOP-16 (12) 0.5mm (TSSOP, 16-Leads, Body 4.00x3.00mm, Pitch 0.50mm, Thermal Pad 2.95x1.75mm, IPC Medium Density)
footprint MSOP-16 (12) 0.5mm - no vias (TSSOP, 16-Leads, Body 4.00x3.00mm, Pitch 0.50mm, Thermal Pad 2.95x1.75mm, IPC Medium Density)
pins: 1 SW, 3 VIN, 5 FBO, 6 VPROG2, 7 VPOG1, 8 GND, 9 VFB, 10 SS, 11 ISET, 12 OVLO, 14 RUN, 16 GND, 17 GND
text: ADJ; Buck

## LTC4053EMSE
designator U?
Battery Charger 1S; Supplier 1: Digi-Key; Supplier 2: Mouser; Supplier 3: Digi-Key; Supplier Part Number 1: LTC4053EMSE-4.2#PBF-ND; Supplier Part Number 2: 584-C4053EMSE-4.2PBF; Supplier Part Number 3: LTC4053EMSE-4.2#TRPBFCT-ND
footprint MSOP-10 EP 0.5mm (TSSOP, 10-Leads, Body 3.00x3.00mm, Pitch 0.50mm, IPC Medium Density)
pins: 1 ~{CHRG}, 2 VCC, 3 ~{FAULT}, 4 TIMER, 5 GND, 6 NTC, 7 PROG, 8 ~{SHDN}, 9 BAT, 10 ~{ACPR}, 11 GND
text: Battery; Charger

## LTC4359
designator U?
Driver High side PMOS High Voltage; Supplier 1: Digi-Key; Supplier Part Number 1: LTC4359HMS8#TRPBFCT-ND; Supplier 2: Digi-Key; Supplier 3: Digi-Key; Supplier 4: Digi-Key; Supplier Part Number 2: LTC4359IMS8#PBF-ND; Supplier Part Number 3: LTC4359IMS8#TRPBFCT-ND; Supplier Part Number 4: LTC4359HMS8#PBF-ND
footprint SM8 0.65mm (TSOP, 8-Leads, Body 2.95x2.80mm, Pitch 0.65mm, IPC Medium Density)
pins: 1 GATE, 2 SOURCE, 3 NC, 4 IN (power), 5 ~{SHDN}, 6 VSS (power), 7 NC, 8 OUT
text: HS; Driver

## LTC4368-1
designator U?
Driver Circuit Protection; Supplier 1: Digi-Key; Supplier 2: Mouser; Supplier 3: Digi-Key; Supplier 4: Digi-Key; Supplier Part Number 1: LTC4368IMS-1#PBF-ND; Supplier Part Number 2: 584-LTC4368IMS1PBF; Supplier Part Number 3: LTC4368HMS-1#PBF-ND; Supplier Part Number 4: LTC4368HMS-1#PBF-ND
footprint MSOP-10 0.5mm (TSSOP, 10-Leads, Body 3.00x3.00mm, Pitch 0.50mm, IPC Medium Density)
pins: 1 VIN, 2 UV, 3 OV, 4 RETRY, 5 GND, 6 ~{SHDN}, 7 ~{FAULT}, 8 VOUT, 9 SENSE, 10 GATE
text: Circuit; Protection

## LTC4412
designator U?
Driver High side PMOS; Supplier 1: Digi-Key; Supplier Part Number 1: LTC4412ES6#TRPBFCT-ND; Supplier 2: Digi-Key; Supplier Part Number 2: LTC4412HVIS6#TRMPBFCT-ND
footprint SOT23-6 (Footprint not found)
pins: 1 IN (power), 2 GND (power), 3 ~{EN}, 4 STAT, 5 GATE, 6 SENSE
text: HS; Driver

## LTC4412HV
designator U?
Driver High side PMOS High Voltage; Supplier 1: Digi-Key; Supplier Part Number 1: LTC4412HVIS6#TRMPBFCT-ND; Supplier 2: Digi-Key; Supplier Part Number 2: LTC4412HVIS6#TRPBFCT-ND
footprint SOT23-6 (Footprint not found)
pins: 1 IN (power), 2 GND (power), 3 ~{EN}, 4 STAT, 5 GATE, 6 SENSE
text: HS; Driver

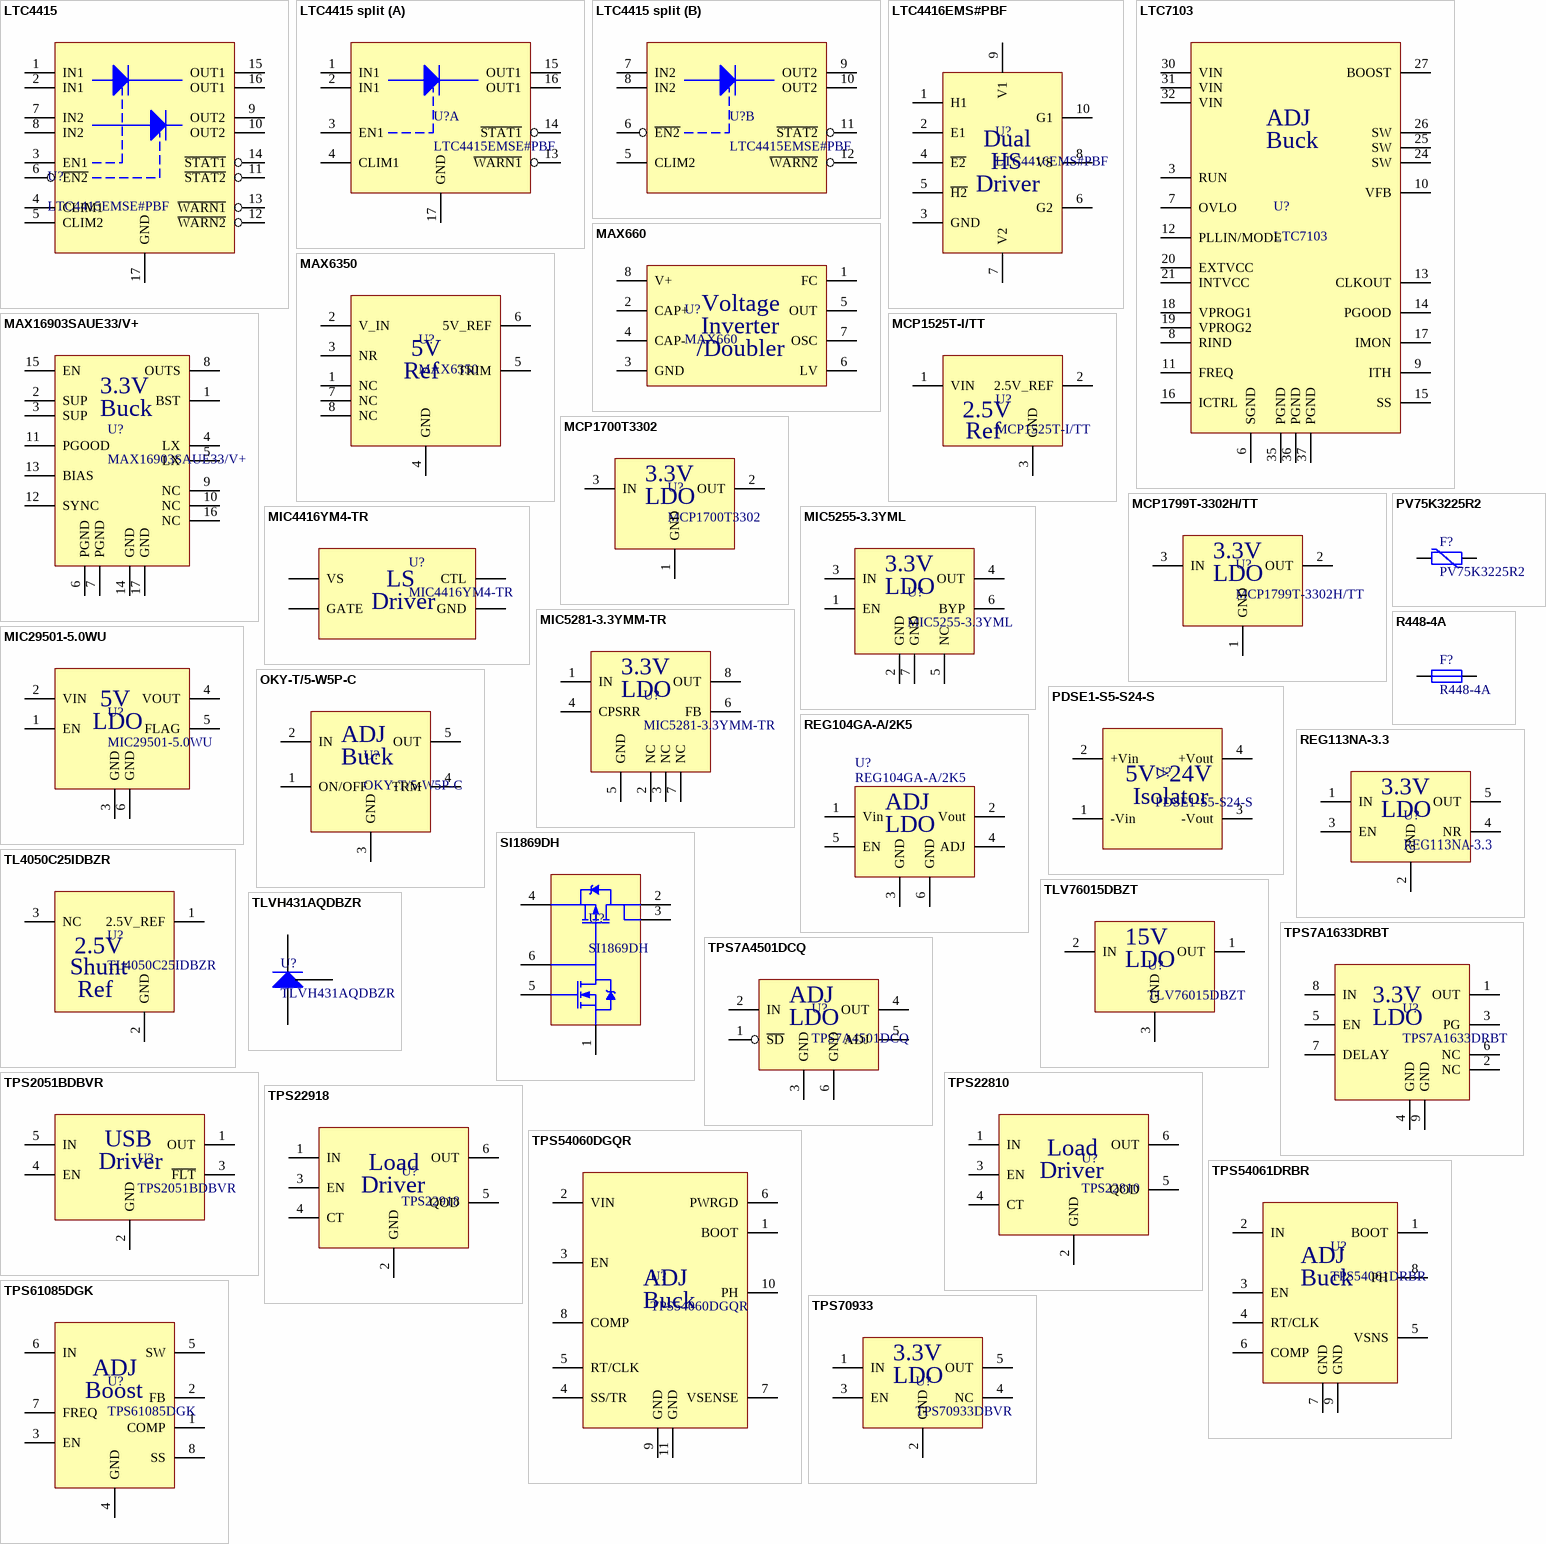
[diagram p2: symbols LTC4415 to TPS70933]

## LTC4415
designator U?, comment LTC4415EMSE#PBF
Driver Dual Ideal Diode; Supplier 1: Digi-Key; Supplier Part Number 1: LTC4415EMSE#PBF-ND; Supplier 2: Digi-Key; Supplier 3: Digi-Key; Supplier Part Number 2: LTC4415IMSE#PBF-ND; Supplier Part Number 3: LTC4415EMSE#TRPBFCT-ND
footprint MSOP-16 0.5mm (MSOP-23, 16-Leads, Exposed Die Pad, Body 4.1x3.1mm)
pins: 1 IN1, 2 IN1, 3 EN1, 4 CLIM1, 5 CLIM2, 6 ~{EN2}, 7 IN2, 8 IN2, 9 OUT2, 10 OUT2, 11 ~{STAT2}, 12 ~{WARN2}, 13 ~{WARN1}, 14 ~{STAT1}, 15 OUT1, 16 OUT1, 17 GND

## LTC4415 split
designator U?, comment LTC4415EMSE#PBF
Driver Dual Ideal Diode; Supplier 1: Digi-Key; Supplier Part Number 1: LTC4415EMSE#PBF-ND; Supplier 2: Digi-Key; Supplier 3: Digi-Key; Supplier Part Number 2: LTC4415EMSE#TRPBFCT-ND; Supplier Part Number 3: LTC4415IMSE#PBF-ND
footprint MSOP-16 0.5mm (MSOP-23, 16-Leads, Exposed Die Pad, Body 4.1x3.1mm)
part A pins: 1 IN1, 2 IN1, 3 EN1, 4 CLIM1, 13 ~{WARN1}, 14 ~{STAT1}, 15 OUT1, 16 OUT1, 17 GND
part B pins: 5 CLIM2, 6 ~{EN2}, 7 IN2, 8 IN2, 9 OUT2, 10 OUT2, 11 ~{STAT2}, 12 ~{WARN2}

## LTC4416EMS#PBF
designator U?
Driver Two Input OR controller; Supplier 1: Digi-Key; Supplier Part Number 1: LTC4416EMS#PBF-ND; Supplier 2: Digi-Key; Supplier Part Number 2: LTC4416IMS#PBF-ND
footprint MSOP-10 0.5mm (TSSOP, 10-Leads, Body 3.00x3.00mm, Pitch 0.50mm, IPC Medium Density)
pins: 1 H1, 2 E1, 3 GND, 4 ~{E2}, 5 ~{H2}, 6 G2, 7 V2, 8 VS, 9 V1, 10 G1
text: Dual; HS; Driver

## LTC7103
designator U?
Regulator Adjustable Switching High Voltage; Mass_g: 1.732; Supplier 1: Digi-Key; Supplier 2: Mouser; Supplier 3: Mouser; Supplier 4: Digi-Key; Supplier Part Number 1: LTC7103EUHE#PBF-ND; Supplier Part Number 2: 584-LTC7103EUHEPBF; Supplier Part Number 3: 584-7103EUHETRPBF; Supplier Part Number 4: LTC7103EUHE#TRPBFCT-ND
footprint QFN-36 (26) EP 0.5mm (QFN, 36-Leads, Body 5.00x6.00mm, Pitch 0.50mm, Thermal Pad 2.60x3.60mm, IPC Medium Density)
pins: 3 RUN, 6 SGND, 7 OVLO, 8 RIND, 9 ITH, 10 VFB, 11 FREQ, 12 PLLIN/MODE, 13 CLKOUT, 14 PGOOD, 15 SS, 16 ICTRL, 17 IMON, 18 VPROG1, 19 VPROG2, 20 EXTVCC, 21 INTVCC, 24 SW, 25 SW, 26 SW, 27 BOOST, 30 VIN, 31 VIN, 32 VIN, 35 PGND, 36 PGND, 37 PGND
text: ADJ; Buck

## MAX660
designator U?
Regulator Voltage Inverter/Doubler; Supplier 1: Digi-Key; Supplier 2: Digi-Key; Supplier Part Number 1: MAX660MX/NOPBCT-ND; Supplier Part Number 2: MAX660ESA+TCT-ND
footprint SOIC-8 (SOIC, 8-Leads, Body 4.90x3.90mm, Pitch 1.27mm, IPC Medium Density)
pins: 1 FC, 2 CAP+, 3 GND, 4 CAP-, 5 OUT, 6 LV, 7 OSC, 8 V+
text: Voltage; Inverter; /Doubler

## MAX6350
designator U?
Reference 5V; Supplier 1: Digi-Key; Supplier Part Number 1: MAX6350CSA+-ND; Supplier 2: Digi-Key; Supplier Part Number 2: MAX6350ESA+-ND
footprint SOIC-8 (Footprint not found)
pins: 1 NC, 2 V_IN, 3 NR, 4 GND, 5 TRIM, 6 5V_REF, 7 NC, 8 NC
text: 5V; Ref

## MAX16903SAUE33/V+
designator U?
Regulator 3.3V Switching; Supplier 1: Digi-Key; Supplier Part Number 1: MAX16903SAUE33/V+-ND; Supplier 2: Digi-Key; Supplier Part Number 2: MAX16903RAUE33/V+-ND
footprint TSSOP-16 EP 0.65mm (TSOP, 16-Leads, Body 5.00x4.40mm, Pitch 0.65mm, Thermal Pad 3.10x3.10mm, IPC Medium Density)
pins: 1 BST, 2 SUP, 3 SUP, 4 LX, 5 LX, 6 PGND, 7 PGND, 8 OUTS, 9 NC, 10 NC, 11 PGOOD, 12 SYNC, 13 BIAS, 14 GND, 15 EN, 16 NC, 17 GND
text: 3.3V; Buck

## MCP1525T-I/TT
designator U?
Reference 2.5V; Supplier 1: Digi-Key; Supplier 2: Digi-Key; Supplier Part Number 1: MCP1525T-I/TTCT-ND; Supplier Part Number 2: MAX6102EUR+TCT-ND
footprint SOT23-3 (Footprint not found)
pins: 1 VIN, 2 2.5V_REF, 3 GND
text: 2.5V; Ref

## MCP1700T3302
designator U?
Regulator 3.3V LDO 3 pin; Supplier 1: Digi-Key; Supplier Part Number 1: MCP1700T3302ETTCT-ND; Supplier 2: Digi-Key; Supplier Part Number 2: AP7333-33SRG-7DICT-ND; Supplier 3: Arrow Electronics; Supplier Part Number 3: AP2138N-3.3TRG1; Supplier 4: Digi-Key; Supplier Part Number 4: AP2138N-3.3TRG1DICT-ND
footprint SOT23-3 (Footprint not found)
pins: 1 GND, 2 OUT, 3 IN
text: 3.3V; LDO

## MCP1799T-3302H/TT
designator U?
Regulator 3.3V LDO 3 pin 45Vin; Supplier 1: Digi-Key; Supplier 2: Mouser; Supplier Part Number 1: 150-MCP1799T-3302H/TTCT-ND; Supplier Part Number 2: 579-CP1799T-3302H/TT
footprint SOT23-3 (Footprint not found)
pins: 1 GND, 2 OUT, 3 IN
text: 3.3V; LDO

## MIC4416YM4-TR
designator U?
Driver low side; Supplier 1: Digi-Key; Supplier Part Number 1: 576-1187-1-ND; Supplier 2: Mouser; Supplier 3: Newark; Supplier Part Number 2: 998-MIC4416YM4TR; Supplier Part Number 3: 90Y7423
footprint SOT-143 (Footprint not found)
pins: 1 GND, 2 GATE, 3 VS, 4 CTL
text: LS; Driver

## MIC5255-3.3YML
designator U?
Regulator 3.3V LDO Small; Supplier 1: Digi-Key; Supplier 2: Digi-Key; Supplier Part Number 1: 576-2826-1-ND; Supplier Part Number 2: 576-2834-1-ND
footprint SON-6 0.65mm (SON, 6-Leads, Body 2.00x2.00mm, Pitch 0.65mm, Thermal Pad 1.40x0.78mm, IPC Medium Density)
pins: 1 EN, 2 GND, 3 IN, 4 OUT, 5 NC, 6 BYP, 7 GND
text: 3.3V; LDO

## MIC5281-3.3YMM-TR
designator U?
Regulator 3.3V LDO High Voltage; Supplier 1: Digi-Key; Supplier Part Number 1: 576-3905-1-ND; Supplier 2: Digi-Key; Supplier Part Number 2: 1611-MIC5282-3.3YMM-ND
footprint TSOP-8 0.65mm (TSOP, 8-Leads, Body 3.00x3.00mm, Pitch 0.65mm, IPC Medium Density)
pins: 1 IN, 2 NC, 3 NC, 4 CPSRR, 5 GND, 6 FB, 7 NC, 8 OUT
text: 3.3V; LDO

## MIC29501-5.0WU
designator U?
Regulator 5V LDO 5A; Supplier 1: Digi-Key; Supplier Part Number 1: 576-2240-ND; Supplier 2: Mouser; Supplier 3: Mouser; Supplier Part Number 2: 998-MIC29501-5.0WU; Supplier Part Number 3: 998-MIC29501-5.0WUTR
footprint D2PAK-5 (Footprint not found)
pins: 1 EN, 2 VIN, 3 GND, 4 VOUT, 5 FLAG, 6 GND
text: 5V; LDO

## OKY-T/5-W5P-C
designator U?
Regulator DC-DC Buck Converter 5A 17W Adjustable; Supplier 1: Digi-Key; Supplier Part Number 1: 811-2067-1-ND; Supplier 2: Mouser; Supplier Part Number 2: 580-OKY-T/5-W5P-C
footprint OKY-T/5-W5P-C (Footprint not found)
pins: 1 ON/OFF, 2 IN, 3 GND, 4 TRM, 5 OUT
text: ADJ; Buck

## PDSE1-S5-S24-S
designator U?
Regulator DC-DC Boost Converter 5V->24V 1W; Supplier 1: Digi-Key; Supplier 2: Digi-Key; Supplier Part Number 1: 102-6295-ND; Supplier Part Number 2: 102-3023-5-ND
footprint CRE1S0505S3C
footprint PDSE1-S
pins: 1 -Vin, 2 +Vin, 3 -Vout, 4 +Vout
text: 5V>24V; Isolator

## PV75K3225R2
designator F?
MOV 100V 4J; Mass_g: 0.4; Supplier 1: Mouser; Supplier Part Number 1: 652-PV75K3225R2; Supplier 2: Digi-Key; Supplier Part Number 2: 118-PV75K3225R2CT-ND; Supplier 3: RSComponents; Supplier Part Number 3: 2048702
footprint MOV 8063 (Molded Inductor, 2-Leads, Body 8.00x6.30mm, IPC Medium Density)
pins: 1, 2

## R448-4A
designator F?
Fuse 4A Fast Blow; Supplier 1: Digi-Key; Supplier Part Number 1: F1640CT-ND; Supplier 2: Digi-Key; Supplier Part Number 2: F2586CT-ND
footprint 1812 FUSE (Chip)
pins: 1, 2

## REG104GA-A/2K5
designator U?
Regulator Adjustable LDO 1A with Enable; Mass_g: 0.120; Supplier 1: Digi-Key; Supplier 2: Mouser; Supplier Part Number 2: 595-REG104GA-A/2K5; Supplier Part Number 1: 296-REG104GA-A/2K5CT-ND
footprint SOT233-6 (SOT223, 6-Leads, Body 6.50x6.92mm (avg), Pitch 1.50mm, IPC Medium Density)
pins: 1 Vin, 2 Vout, 3 GND, 4 ADJ, 5 EN, 6 GND
text: LDO

## REG113NA-3.3
designator U?, comment REG113NA-3.3‎
Regulator 3.3V LDO; Supplier 1: Digi-Key; Supplier Part Number 1: REG113NA-3.3/3KCT-ND; Supplier 2: Mouser; Supplier Part Number 2: 595-REG113NA-3.3/3K
footprint SOT23-5 (SOT23, 5-Leads, Body 2.90x2.45mm, Pitch 0.95mm, IPC Medium Density)
pins: 1 IN, 2 GND, 3 EN, 4 NR, 5 OUT
text: 3.3V; LDO

## SI1869DH
designator U?
Driver 1.2A; Supplier 1: Digi-Key; Supplier Part Number 1: SI1869DH-T1-E3CT-ND; Supplier 2: Mouser; Supplier 3: Digi-Key; Supplier 4: Newark; Supplier 5: Mouser; Supplier 6: Mouser; Supplier 7: Digi-Key; Supplier Part Number 2: 781-SI1869DH-T1-E3; Supplier Part Number 3: SI1869DH-T1-GE3CT-ND; Supplier Part Number 4: 03M2683; Supplier Part Number 5: 781-SI1869DH-T1-GE3; Supplier Part Number 6: 512-FDG6324L; Supplier Part Number 7: FDG6324LCT-ND
footprint SC-70-6 (Footprint not found)
pins: 1 GND (power), 2 OUT, 3 OUT, 4 IN (power), 5 ON, 6 R1,C1

## TL4050C25IDBZR
designator U?
Reference 2.5V Shunt; Supplier 1: Digi-Key; Supplier 2: Digi-Key; Supplier Part Number 1: 296-22815-1-ND; Supplier Part Number 2: 296-22799-1-ND
footprint SOT23-3 (Footprint not found)
pins: 1 2.5V_REF, 2 GND, 3 NC
text: 2.5V; Shunt; Ref

## TLV76015DBZT
designator U?
Regulator 15V LDO; Supplier 1: Digi-Key; Supplier Part Number 1: 296-47015-1-ND; Supplier 2: Digi-Key; Supplier Part Number 2: 296-41423-1-ND
footprint SOT23-3 (Footprint not found)
pins: 1 OUT, 2 IN, 3 GND
text: 15V; LDO

## TLVH431AQDBZR
designator U?
Reference Shunt; Supplier 1: Digi-Key; Supplier 2: Digi-Key; Supplier Part Number 1: 296-17972-1-ND; Supplier Part Number 2: 296-17970-1-ND
footprint SOT23-3 (Footprint not found)
pins: 1 REF, 2 K, 3 A

## TPS7A1633DRBT
designator U?
Regulator 3.3V LDO Small High Voltage; Supplier 1: Digi-Key; Supplier Part Number 1: 296-38540-1-ND; Supplier 2: Mouser; Supplier 3: Digi-Key; Supplier 4: Mouser; Supplier Part Number 2: 595-TPS7A1633DRBT; Supplier Part Number 3: 296-40970-1-ND; Supplier Part Number 4: 595-TPS7A1633DRBR
footprint SON-8 0.65mm (SON, 8-Leads, Body 3.00x3.00mm, Pitch 0.65mm, Thermal Pad 2.40x1.44mm, IPC Medium Density)
pins: 1 OUT, 2 NC, 3 PG, 4 GND, 5 EN, 6 NC, 7 DELAY, 8 IN, 9 GND
text: 3.3V; LDO

## TPS7A4501DCQ
designator U?
Regulator Adjustable LDO 1.2A with Enable; Supplier 1: Digi-Key; Supplier 2: Digi-Key; Supplier Part Number 1: 296-32586-1-ND; Supplier Part Number 2: 296-37000-1-ND
footprint SOT233-6 (SOT223, 6-Leads, Body 6.50x6.92mm (avg), Pitch 1.50mm, IPC Medium Density)
pins: 1 ~{SD}, 2 IN, 3 GND, 4 OUT, 5 ADJ, 6 GND
text: LDO

## TPS2051BDBVR
designator U?
Driver USB Host; Supplier 1: Mouser; Supplier Part Number 1: 584-LTC4411ES5TRMPBF; Supplier 2: Digi-Key; Supplier 3: Digi-Key; Supplier Part Number 2: 296-21265-1-ND; Supplier Part Number 3: 296-26912-1-ND
footprint SOT23-5 (Footprint not found)
pins: 1 OUT, 2 GND (power), 3 ~{FLT}, 4 EN, 5 IN (power)
text: USB; Driver

## TPS22810
designator U?
Driver 2A; Supplier 1: Digi-Key; Supplier Part Number 1: 296-45304-1-ND; Supplier 2: Digi-Key; Supplier Part Number 2: 296-45297-1-ND
footprint SOT23-6 (Footprint not found)
pins: 1 IN (power), 2 GND (power), 3 EN, 4 CT (power), 5 QOD, 6 OUT
text: Load; Driver

## TPS22918
designator U?
Driver 2A Low Voltage; Supplier 1: Digi-Key; Supplier 2: Digi-Key; Supplier 3: Digi-Key; Supplier Part Number 1: 296-44073-1-ND; Supplier Part Number 2: 296-46278-1-ND; Supplier Part Number 3: 296-44613-1-ND
footprint SOT23-6 (Footprint not found)
pins: 1 IN (power), 2 GND (power), 3 EN, 4 CT (power), 5 QOD, 6 OUT
text: Load; Driver

## TPS54060DGQR
designator U?
Regulator Adjustable Switching; Supplier 1: Digi-Key; Supplier 2: Digi-Key; Supplier Part Number 1: 296-37148-1-ND; Supplier Part Number 2: 296-36803-1-ND
footprint MSOP-10 EP 0.5mm (TSSOP, 10-Leads, Body 3.00x3.00mm, Pitch 0.50mm, IPC Medium Density)
pins: 1 BOOT, 2 VIN, 3 EN, 4 SS/TR, 5 RT/CLK, 6 PWRGD, 7 VSENSE, 8 COMP, 9 GND, 10 PH, 11 GND
text: ADJ; Buck

## TPS54061DRBR
designator U?
Regulator Adjustable Switching Small; Supplier 1: Digi-Key; Supplier Part Number 1: 296-39413-1-ND; Supplier 2: Digi-Key; Supplier Part Number 2: 296-30531-1-ND
footprint SON-8 0.65mm (SON, 8-Leads, Body 3.00x3.00mm, Pitch 0.65mm, Thermal Pad 2.40x1.44mm, IPC Medium Density)
pins: 1 BOOT, 2 IN, 3 EN, 4 RT/CLK, 5 VSNS, 6 COMP, 7 GND, 8 PH, 9 GND
text: ADJ; Buck

## TPS61085DGK
designator U?
Regulator DC-DC Boost Converter 2A; Supplier 1: Digi-Key; Supplier 2: Digi-Key; Supplier Part Number 1: 296-23550-1-ND; Supplier Part Number 2: 296-39429-1-ND
footprint TSOP-8 0.65mm (TSOP, 8-Leads, Body 3.00x3.00mm, Pitch 0.65mm, IPC Medium Density)
pins: 1 COMP, 2 FB, 3 EN, 4 GND, 5 SW, 6 IN, 7 FREQ, 8 SS
text: ADJ; Boost

## TPS70933
designator U?, comment TPS70933DBVR
Regulator 3.3V LDO; Supplier 1: Digi-Key; Supplier Part Number 1: 296-35483-1-ND; Supplier 2: Digi-Key; Supplier 3: Digi-Key; Supplier Part Number 2: 296-39474-1-ND; Supplier Part Number 3: 296-40931-1-ND
footprint SOT23-5 (Footprint not found)
pins: 1 IN, 2 GND, 3 EN, 4 NC, 5 OUT
text: 3.3V; LDO

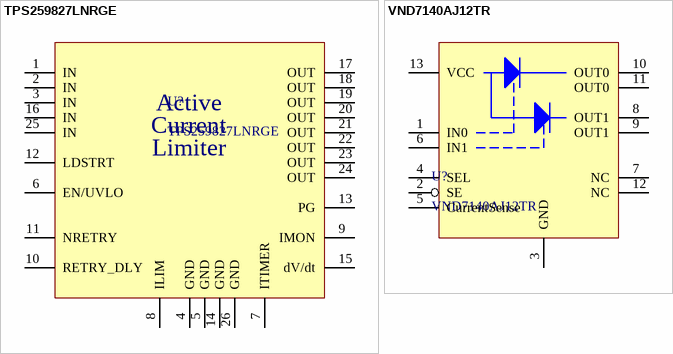
[diagram p3: symbols TPS259827LNRGE to VND7140AJ12TR]

## TPS259827LNRGE
designator U?
Active Current Limiter; Supplier 1: Digi-Key; Supplier Part Number 1: 296-53590-1-ND; Supplier 2: Digi-Key; Supplier Part Number 2: 296-53581-1-ND
footprint QFN-24 0.5mm 2 EP (QFN, 24-Leads, Body 4.00x4.00mm, Pitch 0.50mm, Thermal Pad 2.45x2.45mm, IPC Medium Density)
pins: 1 IN, 2 IN, 3 IN, 4 GND, 5 GND, 6 EN/UVLO, 7 ITIMER, 8 ILIM, 9 IMON, 10 RETRY_DLY, 11 NRETRY, 12 LDSTRT, 13 PG, 14 GND, 15 dV/dt, 16 IN, 17 OUT, 18 OUT, 19 OUT, 20 OUT, 21 OUT, 22 OUT, 23 OUT, 24 OUT, 25 IN, 26 GND
text: Active; Current; Limiter

## VND7140AJ12TR
designator U?
Driver Dual Power Switch; Supplier 1: Digi-Key; Supplier 2: Digi-Key; Supplier Part Number 1: 497-15860-1-ND; Supplier Part Number 2: 497-15859-1-ND
footprint SOP-12 EP 0.8mm (SOP, 12-Leads, Body 4.90x3.90mm, Pitch 0.80mm, Thermal Pad 3.50x2.80mm, IPC Medium Density)
footprint SOP-12 EP 0.8mm - no vias (SOP, 12-Leads, Body 4.90x3.90mm, Pitch 0.80mm, Thermal Pad 3.50x2.80mm, IPC Medium Density)
pins: 1 IN0, 2 SE, 3 GND, 4 SEL, 5 CurrentSense, 6 IN1, 7 NC, 8 OUT1, 9 OUT1, 10 OUT0, 11 OUT0, 12 NC, 13 VCC